# Altium schematic symbol library SCH - CONNECTORS - AMPHENOL - RJ45.SCHLIB: 1 symbol
Pins are listed as number, name and electrical type; pins without a type are passive.

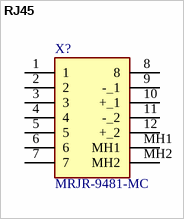
[diagram p0: symbol RJ45]

## RJ45
designator X?, comment MRJR-9481-MC
Connector
pins: 1, 2, 3, 4, 5, 6, 7, 8, 9 -_1, 10 +_1, 11 -_2, 12 +_2, MH1, MH2